# Altium integrated library 其它.IntLib: 1 symbol
Pins are listed as number, name and electrical type; pins without a type are passive.

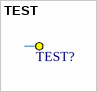
[diagram p0: symbol TEST]

## TEST
designator TEST?  (value not drawn)  (no BOM)
测试点
footprint TEST_2mm (2mm)
pins: 1
2 alternate drawings of the same symbol